# Altium footprint library Push_Button_SPST-NO_B3F-1070.PcbLib: 1 footprints
Each footprint in its own frame and in the unit in brackets; x right, y up, seen from the top. Pads: shape width x height; smd on the part's side, far side on the other; paste and mask are expansions set on the pad; w line width, h text height; cw(c..) or ccw(c..) is an arc to the next point about the centre after c.
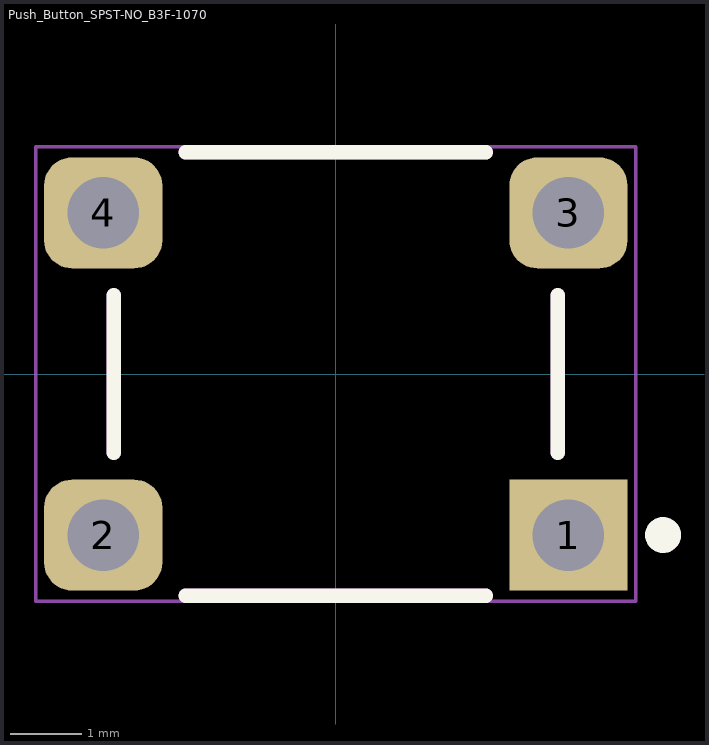
[diagram p0: the footprint, top view; thin cyan lines are the x and y axes]

## Push_Button_SPST-NO_B3F-1070 [mm]
pads (4):
  rect 1.651x1.55 hole 1 paste-1000 mask+0.102: 1(3.25,-2.25)
  rrect50% 1.651x1.55 hole 1 paste-1000 mask+0.102: 2(-3.25,-2.25) 3(3.25,2.25) 4(-3.25,2.25)
Top Overlay:
  circle w0.25: c4.572,-2.25 r0.125
  lines w0.2: -3.1,-1.1 -3.1,1.1 ; -2.1,-3.1 2.1,-3.1 ; -2.1,3.1 2.1,3.1 ; 3.1,-1.1 3.1,1.1
Mechanical 1:
  circle w0.25: c4.575,-2.25 r0.125
  lines w0.05: -4.191,-3.175 -4.191,3.175 4.191,3.175 4.191,-3.175 -4.191,-3.175
  lines w0.2: -3.1,-1.1 -3.1,1.1 ; -2.1,-3.1 2.1,-3.1 ; -2.1,3.1 2.1,3.1 ; 3.1,-1.1 3.1,1.1
  text ".Designator" at 0,0.188 h1
Top Courtyard:
  text "+" at -0.333,-0.5 h1
3D body "Switch_Omron_B3F-1070_eec.STEP": height 9.9, standoff -3.5, extent -3.85,-3.001 3.85,3